# EAGLE library part TMC5130 (library TMC5130_3D_Printer_BOARD_V_2)
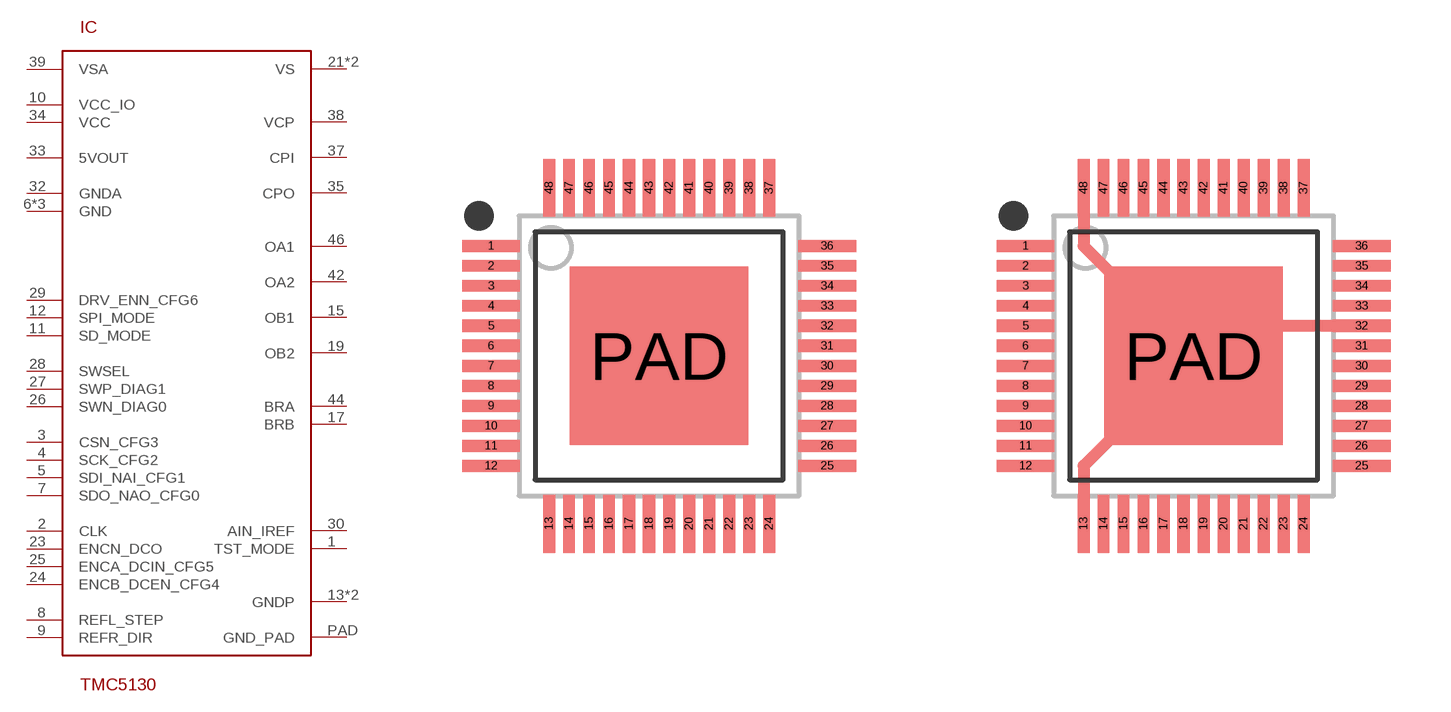
[diagram p3: symbol with the pads of QFP50P900X900X113-49N_NOFID; footprints QFP50P900X900X113-49N_NOFID, QFP50P900X900X113-49N-NOFID_RHINO]

Designator prefix IC

## TMC5130 (OC_DIGIKEY: _)  [QFP50P900X900X113-49N_NOFID]
1  TST_MODE
2  CLK
3  CSN_CFG3
4  SCK_CFG2
5  SDI_NAI_CFG1
6  GND
7  SDO_NAO_CFG0
8  REFL_STEP
9  REFR_DIR
10  VCC_IO
11  SD_MODE
12  SPI_MODE
13  GNDP
15  OB1
17  BRB
19  OB2
21  VS
23  ENCN_DCO
24  ENCB_DCEN_CFG4
25  ENCA_DCIN_CFG5
26  SWN_DIAG0
27  SWP_DIAG1
28  SWSEL
29  DRV_ENN_CFG6
30  AIN_IREF
31  GND
32  GNDA
33  5VOUT
34  VCC
35  CPO
36  GND
37  CPI
38  VCP
39  VSA
40  VS
42  OA2
44  BRA
46  OA1
48  GNDP
PAD  GND_PAD

## TMC5130GND_TO_COOLING_PAD  [QFP50P900X900X113-49N-NOFID_RHINO]
Pads as for QFP50P900X900X113-49N_NOFID

## Footprint QFP50P900X900X113-49N_NOFID (pad centres in mm)
smd 1.45 x 0.3: 1 -4.2,2.75; 2 -4.2,2.25; 3 -4.2,1.75; 4 -4.2,1.25; 5 -4.2,0.75; 6 -4.2,0.25; 7 -4.2,-0.25; 8 -4.2,-0.75; 9 -4.2,-1.25; 10 -4.2,-1.75; 11 -4.2,-2.25; 12 -4.2,-2.75; 25 4.2,-2.75; 26 4.2,-2.25; 27 4.2,-1.75; 28 4.2,-1.25; 29 4.2,-0.75; 30 4.2,-0.25; 31 4.2,0.25; 32 4.2,0.75; 33 4.2,1.25; 34 4.2,1.75; 35 4.2,2.25; 36 4.2,2.75
smd 0.3 x 1.45: 13 -2.75,-4.2; 14 -2.25,-4.2; 15 -1.75,-4.2; 16 -1.25,-4.2; 17 -0.75,-4.2; 18 -0.25,-4.2; 19 0.25,-4.2; 20 0.75,-4.2; 21 1.25,-4.2; 22 1.75,-4.2; 23 2.25,-4.2; 24 2.75,-4.2; 37 2.75,4.2; 38 2.25,4.2; 39 1.75,4.2; 40 1.25,4.2; 41 0.75,4.2; 42 0.25,4.2; 43 -0.25,4.2; 44 -0.75,4.2; 45 -1.25,4.2; 46 -1.75,4.2; 47 -2.25,4.2; 48 -2.75,4.2
smd 4.45 x 4.45: PAD 0,0

## Footprint QFP50P900X900X113-49N-NOFID_RHINO (pad centres in mm)
smd 1.45 x 0.3: 1 -4.2,2.75; 2 -4.2,2.25; 3 -4.2,1.75; 4 -4.2,1.25; 5 -4.2,0.75; 6 -4.2,0.25; 7 -4.2,-0.25; 8 -4.2,-0.75; 9 -4.2,-1.25; 10 -4.2,-1.75; 11 -4.2,-2.25; 12 -4.2,-2.75; 25 4.2,-2.75; 26 4.2,-2.25; 27 4.2,-1.75; 28 4.2,-1.25; 29 4.2,-0.75; 30 4.2,-0.25; 31 4.2,0.25; 32 4.2,0.75; 33 4.2,1.25; 34 4.2,1.75; 35 4.2,2.25; 36 4.2,2.75
smd 0.3 x 1.45: 13 -2.75,-4.2; 14 -2.25,-4.2; 15 -1.75,-4.2; 16 -1.25,-4.2; 17 -0.75,-4.2; 18 -0.25,-4.2; 19 0.25,-4.2; 20 0.75,-4.2; 21 1.25,-4.2; 22 1.75,-4.2; 23 2.25,-4.2; 24 2.75,-4.2; 37 2.75,4.2; 38 2.25,4.2; 39 1.75,4.2; 40 1.25,4.2; 41 0.75,4.2; 42 0.25,4.2; 43 -0.25,4.2; 44 -0.75,4.2; 45 -1.25,4.2; 46 -1.75,4.2; 47 -2.25,4.2; 48 -2.75,4.2
smd 4.45 x 4.45: PAD 0,0